# Altium footprint library adc_pcb_board.PcbLib: 11 footprints
Each footprint in its own frame and in the unit in brackets; x right, y up, seen from the top. Pads: shape width x height; smd on the part's side, far side on the other; paste and mask are expansions set on the pad; w line width, h text height; cw(c..) or ccw(c..) is an arc to the next point about the centre after c.
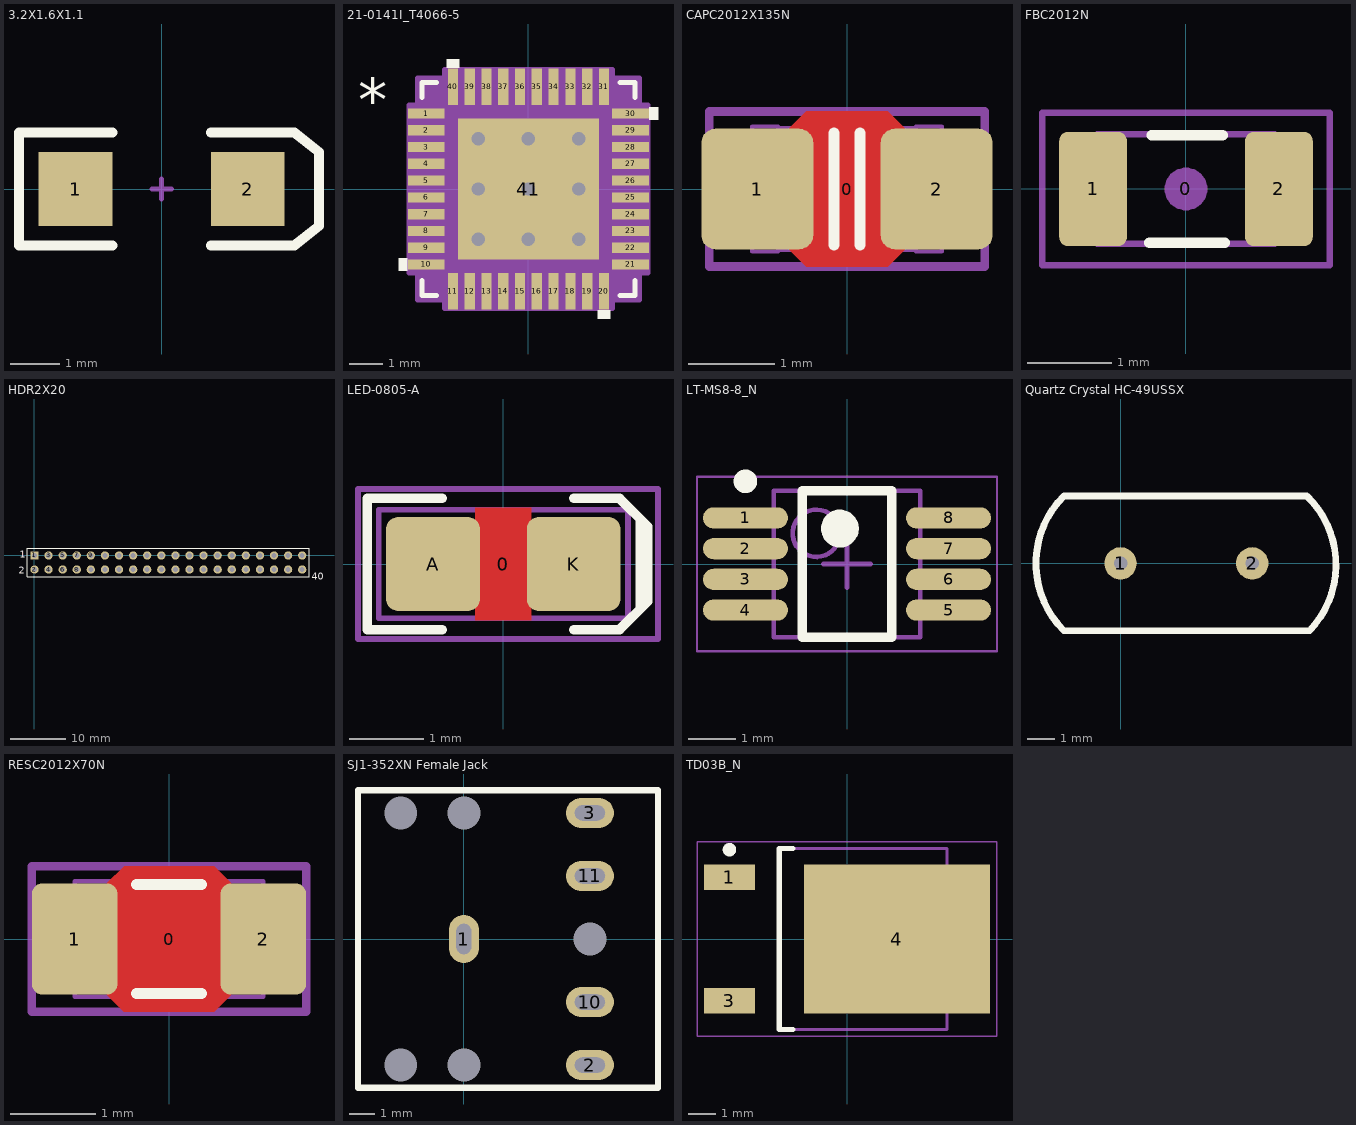
[diagram p0: the footprints below, top view; thin cyan lines are the x and y axes]

## 3.2X1.6X1.1 [mm] "SMT LED; 2 Flat Leads"
height 1.2
pads (2):
  rect 1.5x1.5 smd: 1(-1.75,0) 2(1.75,0)
Top Overlay:
  lines w0.2: -1,-1.15 -2.9,-1.15 -2.9,1.15 -1,1.15 ; 1,-1.15 2.7,-1.15 3.2,-0.75 3.2,0.75 2.7,1.15 1,1.15
Mechanical 1:
  lines w0.1: -0.2,0 0.2,0 ; 0,-0.2 0,0.2

## 21-0141I_T4066-5 [mm]
height 12
pads (41):
  rect 1.1x0.305 smd paste+0 mask+0: 1(-3.046,2.25) 2(-3.046,1.75) 3(-3.046,1.25) 4(-3.046,0.75) 5(-3.046,0.25) 6(-3.046,-0.25) 7(-3.046,-0.75) 8(-3.046,-1.25) 9(-3.046,-1.75) 10(-3.046,-2.25) 21(3.046,-2.25) 22(3.046,-1.75) 23(3.046,-1.25) 24(3.046,-0.75) 25(3.046,-0.25) 26(3.046,0.25) 27(3.046,0.75) 28(3.046,1.25) 29(3.046,1.75) 30(3.046,2.25)
  rect 0.305x1.1 smd paste+0 mask+0: 11(-2.25,-3.046) 12(-1.75,-3.046) 13(-1.25,-3.046) 14(-0.75,-3.046) 15(-0.25,-3.046) 16(0.25,-3.046) 17(0.75,-3.046) 18(1.25,-3.046) 19(1.75,-3.046) 20(2.25,-3.046) 31(2.25,3.046) 32(1.75,3.046) 33(1.25,3.046) 34(0.75,3.046) 35(0.25,3.046) 36(-0.25,3.046) 37(-0.75,3.046) 38(-1.25,3.046) 39(-1.75,3.046) 40(-2.25,3.046)
  rect 4.191x4.191 smd paste-2.083 mask+0: 41(0,0)
via 0,0 diameter 0.8 hole 0.4
via -1.5,0 diameter 0.8 hole 0.4
via -1.5,1.5 diameter 0.8 hole 0.4
via 0,1.5 diameter 0.8 hole 0.4
via 1.5,1.5 diameter 0.8 hole 0.4
via 1.5,0 diameter 0.8 hole 0.4
via 1.5,-1.5 diameter 0.8 hole 0.4
via 0,-1.5 diameter 0.8 hole 0.4
via -1.5,-1.5 diameter 0.8 hole 0.4
Top Overlay:
  region: -2.06,3.607 -2.441,3.607 -2.441,3.861 -2.06,3.861
  region: 3.607,2.441 3.861,2.441 3.861,2.06 3.607,2.06
  region: 2.441,-3.607 2.06,-3.607 2.06,-3.861 2.441,-3.861
  region: -3.607,-2.06 -3.861,-2.06 -3.861,-2.441 -3.607,-2.441
  lines w0.152: -3.175,-2.735 -3.175,-3.175 -2.735,-3.175 ; -3.175,2.735 -3.175,3.175 -2.735,3.175 ; 2.735,-3.175 3.175,-3.175 3.175,-2.735 ; 2.735,3.175 3.175,3.175 3.175,2.735
  text "*" at -5.08,2.032 h1.27
Top Paste:
  region: 1.996,-0.798 0.798,-0.798 0.798,-1.996 1.996,-1.996
  region: 1.996,0.599 0.798,0.599 0.798,-0.599 1.996,-0.599
  region: 1.996,1.996 0.798,1.996 0.798,0.798 1.996,0.798
  region: 0.599,-0.798 -0.599,-0.798 -0.599,-1.996 0.599,-1.996
  region: 0.599,0.599 -0.599,0.599 -0.599,-0.599 0.599,-0.599
  region: 0.599,1.996 -0.599,1.996 -0.599,0.798 0.599,0.798
  region: -0.798,-0.798 -1.996,-0.798 -1.996,-1.996 -0.798,-1.996
  region: -0.798,0.599 -1.996,0.599 -1.996,-0.599 -0.798,-0.599
  region: -0.798,1.996 -1.996,1.996 -1.996,0.798 -0.798,0.798
Mechanical 13:
  lines w0.025: -3.048,1.778 -1.778,3.048 ; -3.048,-3.048 -3.048,3.048 3.048,3.048 3.048,-3.048 -3.048,-3.048 ; -3.048,-2.402 -3.048,-2.098 -3.048,-2.402 ; -3.048,-1.902 -3.048,-1.598 -3.048,-1.902 ; -3.048,-1.402 -3.048,-1.098 -3.048,-1.402 ; -3.048,-0.902 -3.048,-0.598 -3.048,-0.902 ; -3.048,-0.402 -3.048,-0.098 -3.048,-0.402 ; -3.048,0.098 -3.048,0.402 -3.048,0.098 ; -3.048,0.598 -3.048,0.902 -3.048,0.598 ; -3.048,1.098 -3.048,1.402 -3.048,1.098 ; -3.048,1.598 -3.048,1.902 -3.048,1.598 ; -3.048,2.098 -3.048,2.402 -3.048,2.098 ; -2.402,-3.048 -2.098,-3.048 -2.402,-3.048 ; -2.402,3.048 -2.098,3.048 -2.402,3.048 ; -1.902,-3.048 -1.598,-3.048 -1.902,-3.048 ; -1.902,3.048 -1.598,3.048 -1.902,3.048 ; -1.402,-3.048 -1.098,-3.048 -1.402,-3.048 ; -1.402,3.048 -1.098,3.048 -1.402,3.048 ; -0.902,-3.048 -0.598,-3.048 -0.902,-3.048 ; -0.902,3.048 -0.598,3.048 -0.902,3.048 ; -0.402,-3.048 -0.098,-3.048 -0.402,-3.048 ; -0.402,3.048 -0.098,3.048 -0.402,3.048 ; 0.098,-3.048 0.402,-3.048 0.098,-3.048 ; 0.098,3.048 0.402,3.048 0.098,3.048 ; 0.598,-3.048 0.902,-3.048 0.598,-3.048 ; 0.598,3.048 0.902,3.048 0.598,3.048 ; 1.098,-3.048 1.402,-3.048 1.098,-3.048 ; 1.098,3.048 1.402,3.048 1.098,3.048 ; 1.598,-3.048 1.902,-3.048 1.598,-3.048 ; 1.598,3.048 1.902,3.048 1.598,3.048 ; 2.098,-3.048 2.402,-3.048 2.098,-3.048 ; 2.098,3.048 2.402,3.048 2.098,3.048 ; 3.048,-2.402 3.048,-2.098 3.048,-2.402 ; 3.048,-1.902 3.048,-1.598 3.048,-1.902 ; 3.048,-1.402 3.048,-1.098 3.048,-1.402 ; 3.048,-0.902 3.048,-0.598 3.048,-0.902 ; 3.048,-0.402 3.048,-0.098 3.048,-0.402 ; 3.048,0.098 3.048,0.402 3.048,0.098 ; 3.048,0.598 3.048,0.902 3.048,0.598 ; 3.048,1.098 3.048,1.402 3.048,1.098 ; 3.048,1.598 3.048,1.902 3.048,1.598 ; 3.048,2.098 3.048,2.402 3.048,2.098
  text "*" at -2.857,1.865 h1.27
Mechanical 15:
  region: -2.5,-3.302 -3.302,-3.302 -3.302,-2.5 -3.556,-2.5 -3.556,2.5 -3.302,2.5 -3.302,3.302 -2.5,3.302 -2.5,3.556 2.5,3.556 2.5,3.302 3.302,3.302 3.302,2.5 3.556,2.5 3.556,-2.5 3.302,-2.5 3.302,-3.302 2.5,-3.302 2.5,-3.556 -2.5,-3.556
  lines w0.152: -3.556,-2.5 -3.556,2.5 -3.302,2.5 -3.302,3.302 -2.5,3.302 -2.5,3.556 2.5,3.556 2.5,3.302 3.302,3.302 3.302,2.5 3.556,2.5 3.556,-2.5 3.302,-2.5 3.302,-3.302 2.5,-3.302 2.5,-3.556 -2.5,-3.556 -2.5,-3.302 -3.302,-3.302 -3.302,-2.5 -3.556,-2.5
3D body: height 0.25, standoff 0, extent 0,0 0.254,0.254

## CAPC2012X135N [mm] "Chip Capacitor, Body 2.0x1.2mm, EIA 0805, IPC Medium Density"
height 1.35
pads (3):
  round 0.254 on Mech15: 0(0,0)
  rrect25% 1.3x1.4 smd: 1(-1.041,0) 2(1.041,0)
Top Layer:
  pour cut-out: -0.675,0.7 -0.475,0.9 0.475,0.9 0.675,0.7 0.675,-0.7 0.475,-0.9 -0.475,-0.9 -0.675,-0.7
Top Overlay:
  lines w0.127: -0.15,-0.651 -0.15,0.651 ; 0.15,-0.651 0.15,0.651
Mechanical 13:
  lines w0.05: -0.8,-0.705 0.8,-0.705 ; -0.8,0.705 0.8,0.705 ; -1.1,-0.725 -0.8,-0.725 -0.8,0.725 -1.1,0.725 -1.1,-0.725 ; 0.8,-0.725 0.8,0.725 1.1,0.725 1.1,-0.725 0.8,-0.725
Mechanical 15:
  lines w0.1: -1.6,-0.9 1.6,-0.9 1.6,0.9 -1.6,0.9 -1.6,-0.9
3D body "CAP_0805.STEP": height 1.34, standoff -0.01, extent -1.1,-0.725 1.1,0.725

## FBC2012N [mm] "Ferrite Bead Chip, Body 2.0x1.2mm, 0805, IPC Medium Density"
height 0.9
pads (3):
  round 0.508 on Mech15: 0(0,0)
  rrect25% 0.8x1.35 smd: 1(-1.1,0) 2(1.1,0)
Top Overlay:
  lines w0.127: -0.432,-0.635 0.457,-0.635 ; -0.406,0.635 0.432,0.635
Mechanical 13:
  lines w0.076: -1.05,-0.65 -1.05,0.65 1.05,0.65 1.05,-0.65 -1.05,-0.65
Mechanical 15:
  lines w0.076: -1.7,-0.9 -1.7,0.9 1.7,0.9 1.7,-0.9 -1.7,-0.9
3D body "FBC_0805.stp": height 0.9, standoff 0, extent -1,-0.625 1,0.625

## HDR2X20 [mm] "Connector; Header; 20x2 Position"
height 12
pads (40):
  rect 1.5x1.5 hole 0.9: 1(0,0)
  round 1.5 hole 0.9: 2(0,-2.54) 3(2.54,0) 4(2.54,-2.54) 5(5.08,0) 6(5.08,-2.54) 7(7.62,0) 8(7.62,-2.54) 9(10.16,0) 10(10.16,-2.54) 11(12.7,0) 12(12.7,-2.54) 13(15.24,0) 14(15.24,-2.54) 15(17.78,0) 16(17.78,-2.54) 17(20.32,0) 18(20.32,-2.54) 19(22.86,0) 20(22.86,-2.54) 21(25.4,0) 22(25.4,-2.54) 23(27.94,0) 24(27.94,-2.54) 25(30.48,0) 26(30.48,-2.54) 27(33.02,0) 28(33.02,-2.54) 29(35.56,0) 30(35.56,-2.54) 31(38.1,0) 32(38.1,-2.54) 33(40.64,0) 34(40.64,-2.54) 35(43.18,0) 36(43.18,-2.54) 37(45.72,0) 38(45.72,-2.54) 39(48.26,0) 40(48.26,-2.54)
Top Overlay:
  lines w0.2: -1.27,-3.81 -1.27,1.27 49.53,1.27 49.53,-3.81 -1.27,-3.81
  text "40" at 50.018,-4.347 h1.27
  text "2" at -2.794,-3.302 h1.27
  text "1" at -2.667,-0.381 h1.27

## LED-0805-A [mil]
height 31.5
pads (3):
  round 20 on Mech15: 0(0,0)
  rrect25% 50x50 smd: A(-37.5,0) K(37.5,0)
Top Layer:
  pour cut-out: -15,30 15,30 15,-30 -15,-30
Top Overlay:
  lines w5: -32.5,-35 -72.5,-35 -72.5,35 -32.5,35 ; 37.5,-35 62,-35 77,-20 77,20 62,35 37.5,35 ; 73,-24 73,24
Mechanical 13:
  lines w3: -66.5,-29 -66.5,29 66.5,29 66.5,-29 -66.5,-29
Mechanical 15:
  lines w3: -77.5,-40 -77.5,40 82.5,40 82.5,-40 -77.5,-40
3D body: height 3.94, standoff 0, extent -11.81,-15.75 11.81,15.75
3D body: height 3.94, standoff 0, extent -39.37,-24.61 39.37,24.61
3D body: height 11.81, standoff 3.94, extent -39.37,-24.61 39.37,24.61
3D body: height 31.5, standoff 11.81, extent -26.49,-24.61 28.65,24.6

## LT-MS8-8_N [mm] "SOP, 8-Leads, Body 3x3mm, Pitch 0.65mm, IPC Medium Density"
height 1.1
pads (8):
  oval 1.8x0.45 smd: 1(-2.15,0.975) 2(-2.15,0.325) 3(-2.15,-0.325) 4(-2.15,-0.975) 5(2.15,-0.975) 6(2.15,-0.325) 7(2.15,0.325) 8(2.15,0.975)
Top Overlay:
  circle w0.4: c-0.15,0.75 r0.2
  circle w0.25: c-2.15,1.75 r0.125
  lines w0.2: -0.95,-1.55 0.95,-1.55 0.95,1.55 -0.95,1.55 -0.95,-1.55
Mechanical 13:
  circle w0.1: c-0.65,0.65 r0.5
  lines w0.1: -1.55,-1.55 1.55,-1.55 1.55,1.55 -1.55,1.55 -1.55,-1.55
Mechanical 15:
  lines w0.05: -3.175,-1.85 3.175,-1.85 3.175,1.85 -3.175,1.85 -3.175,-1.85
  lines w0.1: -0.5,0 0.5,0 ; 0,-0.5 0,0.5
3D body: height 1.1, standoff 0.05, extent -1.55,-1.55 1.55,1.55

## Quartz Crystal HC-49USSX [mm]
height 12
pads (2):
  round 1.2 hole 0.5: 1(0,0) 2(4.88,0)
Top Overlay:
  lines w0.254: -2.1,-2.5 cw(c0.4,0) -2.1,2.5 4.9,2.5 6.9,2.5 cw(c4.45,-0.05) 7,-2.5 5,-2.5 0,-2.5 -2.1,-2.5

## RESC2012X70N [mm] "Chip Resistor, Body 2.0x1.2mm, EIA 0805, IPC Medium Density"
height 0.7
pads (3):
  round 0.254 on Mech15: 0(0,0)
  rrect25% 1x1.3 smd: 1(-1.1,0) 2(1.1,0)
Top Layer:
  pour cut-out: -0.725,0.65 -0.525,0.85 0.525,0.85 0.725,0.65 0.725,-0.65 0.525,-0.85 -0.525,-0.85 -0.725,-0.65
Top Overlay:
  lines w0.127: -0.381,-0.635 0.381,-0.635 ; -0.381,0.635 0.381,0.635
Mechanical 13:
  lines w0.05: 0.6,-0.674 -0.6,-0.674 ; -0.6,-0.674 0.6,-0.674 ; -0.6,-0.675 -1.1,-0.675 -1.1,0.675 -0.6,0.675 -0.6,-0.675 ; 0.6,-0.675 1.1,-0.675 1.1,0.675 0.6,0.675 ; 0.6,-0.675 0.6,0.675 ; 0.6,0.674 -0.6,0.674 0.6,0.674
Mechanical 15:
  lines w0.1: -1.6,-0.85 -1.6,0.85 1.6,0.85 1.6,-0.85 -1.6,-0.85
3D body "RES 0805 (2012 metric).STEP": height 0.69, standoff -0.01, extent -1.1,-0.675 1.1,0.675

## SJ1-352XN Female Jack [mm]
pads (10):
  oval 1.2x1.9 hole 0.6 slot 1.2 at 90 deg: 1(0,0)
  oval 1.9x1.2 hole 0.6 slot 1.2 at 0 deg: 2(5,-5) 3(5,5) 10(5,-2.5) 11(5,2.5)
  round 0 hole 1.3: 6(5,0) 7(0,5) 8(0,-5) 9(-2.5,5) 12(-2.5,-5)
Top Overlay:
  lines w0.254: -4.2,-5.9 -4.2,5.9 ; -4.2,-5.9 -4.2,-5.9 ; -4.2,-5.9 7.7,-5.9 7.7,5.9 -4.2,5.9 ; -4.2,5.9 -4.2,5.9
  text "." at -3.5,-3.2 h1.52

## TD03B_N [mm] "D-PAK, 4-Leads, Body 6.1x6.6mm, Pitch 2.29mm, Lead Span 9.7mm, IPC Medium Density"
height 2.38
pads (3):
  rect 1.9x0.95 smd: 1(-4.35,2.28) 3(-4.35,-2.28)
  rect 6.9x5.5 smd: 4(1.85,0)
Top Overlay:
  circle w0.25: c-4.35,3.305 r0.125
  lines w0.2: -2,-3.35 -2.5,-3.35 -2.5,3.35 -2,3.35
Mechanical 13:
  lines w0.1: -2.5,-3.35 3.7,-3.35 3.7,3.35 -2.5,3.35 -2.5,-3.35
Mechanical 15:
  lines w0.05: -5.55,-3.6 5.55,-3.6 5.55,3.6 -5.55,3.6 -5.55,-3.6
  lines w0.1: -0.5,0 0.5,0 ; 0,-0.5 0,0.5
3D body: height 2.38, standoff 0.17, extent -2.5,-3.35 3.7,3.35